# Altium schematic symbol library 4700-003.SchLib: 2 symbols
Pins are listed as number, name and electrical type; pins without a type are passive.

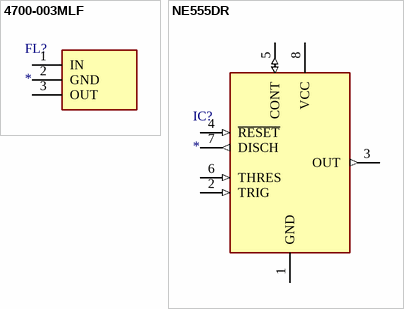
[diagram p0: symbols 4700-003MLF to NE555DR]

## 4700-003MLF
designator FL?
Filter; Manufacturer_Name: CTS; Manufacturer_Part_Number: 4700-003MLF; Datasheet Link: http://www.ctscorp.com/wp-content/uploads/2016/01/4700-003.pdf; Height: 2.41mm
footprint 4700003MLF
pins: 1 IN, 2 GND, 3 OUT

## NE555DR
designator IC?
Integrated Circuit; Manufacturer_Name: Texas Instruments; Manufacturer_Part_Number: NE555DR; Datasheet Link: http://www.ti.com/lit/ds/symlink/ne555.pdf; Height: 1.75mm; Mouser Part Number: 595-NE555DR; Mouser Price/Stock: https://www.mouser.com/Search/Refine.aspx?Keyword=595-NE555DR; RS Part Number: 1218414; RS Price/Stock: http://uk.rs-online.com/web/p/products/1218414
footprint SOIC127P600X175-8N
pins: 1 GND (power), 2 TRIG (in), 3 OUT (out), 4 ~{RESET} (in), 5 CONT (io), 6 THRES (in), 7 DISCH (out), 8 VCC (power)